# Altium schematic symbol library main.SchLib: 37 symbols (part 2 of 2)
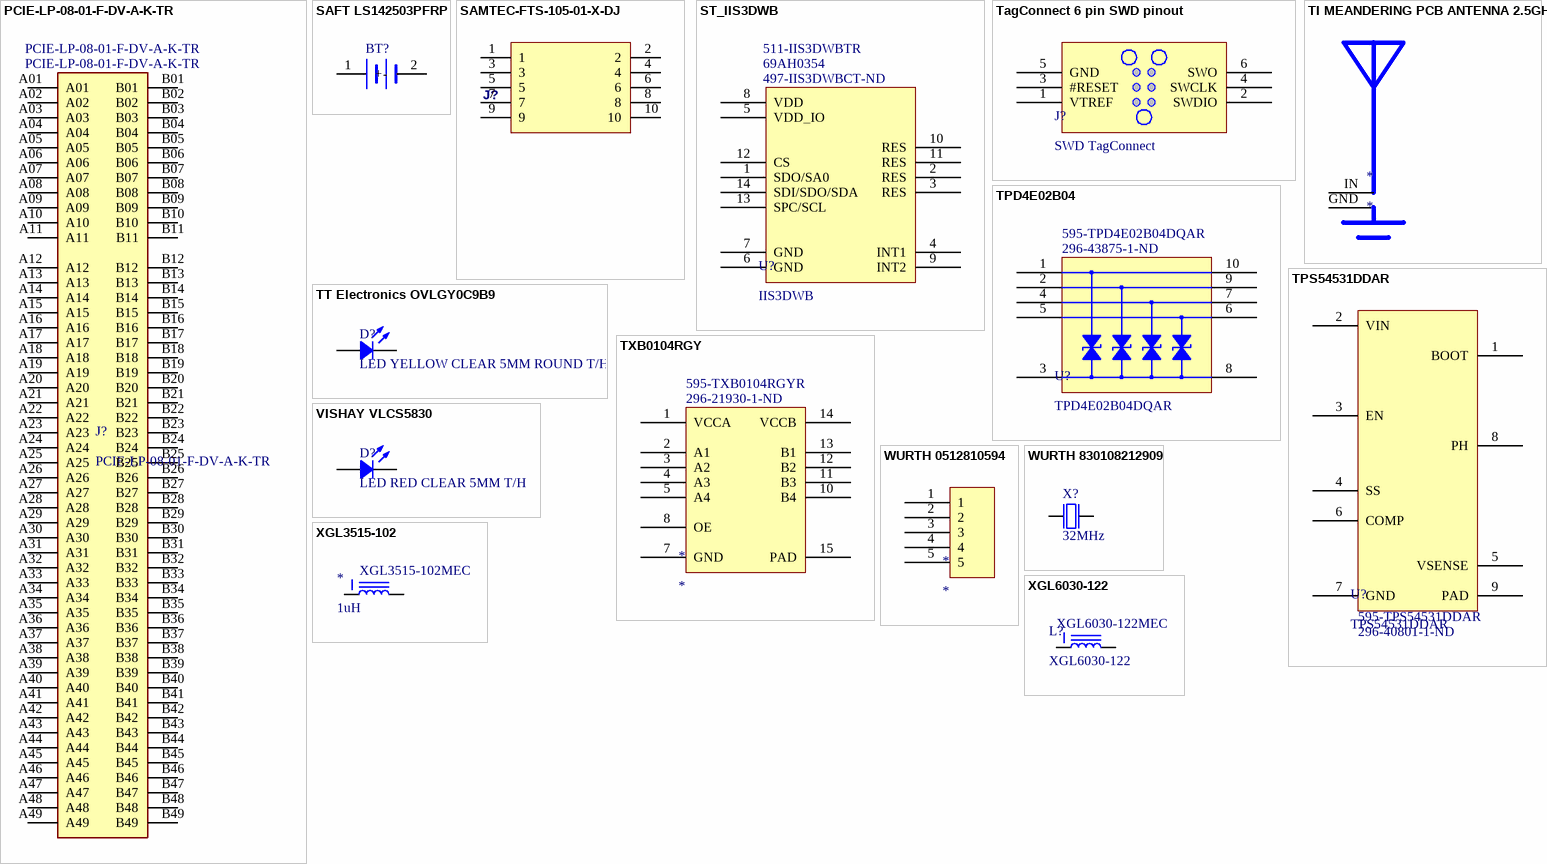
[diagram p4: symbols PCIE-LP-08-01-F-DV-A-K-TR to XGL6030-122]

## TXB0104RGY
designator *  Supplier Part Number 1: 296-21930-1-ND  Supplier Part Number 2: 595-TXB0104RGYR
TEXAS INSTRUMENTS - TXB0104RGYR - Spannungspegelumsetzer, bidirektional, 4 Eingänge, 0.02mA, 4ns, 100MB/s, 1.2V-3.6V, QFN-14; Min Supply Voltage: 1.2V; Max Supply Voltage: 5.5V; Data Rate: 100Mbps; Number of Channels: 4; Logic Function: Translator; Low Level Output Current: 20uA; High Level Output Current: -20uA; Quiescent Current: 3.5uA; Turn-On Delay Time: 31ns; Rise Time: 0.3ns; Nominal Supply Current: 10uA; Number of Circuits: 1; Supplier 1: Digi-Key; Manufacturer: Texas Instruments; Manufacturer Part Number: TXB0104RGYR; RoHS: Yes; Category: Interface ICs; Stock 1: 6181; Pricing 1: 1=1.08000, 10=0.96300, 25=0.91400, 100=0.75090, 250=0.70192, 500=0.57134, 1000=0.45054 (USD); Mount: Surface Mount; Case/Package: VQFN; Number of Pins: 14; Weight: 0.001136oz; Contact Plating: Gold; Min Operating Temperature: -40°C; Max Operating Temperature: 85°C; Propagation Delay: 4ns; Packaging: Tape and Reel; Package Quantity: 3000; Number of Bits: 4; Number of Inputs: 4; Output Current: 20uA; Termination: SMD/SMT; Length: 3.5mm; Width: 3.5mm; Height: 0.9mm; Radiation Hardening: No; REACH SVHC: No SVHC; Lead Free: Lead Free; RoHS Compliant: Yes; ComponentLink1URL: https://datasheet.ciiva.com/14287/txb0104-14287376.pdf?src-supplier=Avnet; ComponentLink1Description: https://datasheet.ciiva.com/14287/txb0104-14287376.pdf?src-supplier=Avnet; ComponentLink2URL: https://datasheet.ciiva.com/15096/getdatasheetpartid-194622-15096230.pdf?src-supplier=Verical; ComponentLink2Description: https://datasheet.ciiva.com/15096/getdatasheetpartid-194622-15096230.pdf?src-supplier=Verical; ComponentLink3URL: https://datasheet.ciiva.com/1628/1748789-1628679.pdf?src-supplier=Newark; ComponentLink3Description: https://datasheet.ciiva.com/1628/1748789-1628679.pdf?src-supplier=Newark; ComponentLink4URL: https://datasheet.ciiva.com/22653/1846917-22653357.pdf?src-supplier=Farnell; ComponentLink4Description: https://datasheet.ciiva.com/22653/1846917-22653357.pdf?src-supplier=Farnell; ComponentLink5URL: https://datasheet.ciiva.com/22696/1814911-22696845.pdf?src-supplier=Element14; ComponentLink5Description: https://datasheet.ciiva.com/22696/1814911-22696845.pdf?src-supplier=Element14; ComponentLink6URL: https://datasheet.ciiva.com/26867/txb0104rgyr-26867570.pdf?src-supplier=IIIC; ComponentLink6Description: https://datasheet.ciiva.com/26867/txb0104rgyr-26867570.pdf?src-supplier=IIIC; ComponentLink7URL: https://datasheet.ciiva.com/1508/1849862-1508725.pdf?src-supplier=Element14; ComponentLink7Description: https://datasheet.ciiva.com/1508/1849862-1508725.pdf?src-supplier=Element14; ComponentLink8URL: https://datasheet.ciiva.com/1899/txb0104-1899517.pdf?src-supplier=Digi-Key; ComponentLink8Description: https://datasheet.ciiva.com/1899/txb0104-1899517.pdf?src-supplier=Digi-Key; ComponentLink9URL: https://datasheet.ciiva.com/46384/1864432-46384589.pdf?src-supplier=Element14; ComponentLink9Description: https://datasheet.ciiva.com/46384/1864432-46384589.pdf?src-supplier=Element14; ComponentLink10URL: https://datasheet.ciiva.com/1899/txb0104-1899518.pdf?src-supplier=Digi-Key; ComponentLink10Description: https://datasheet.ciiva.com/1899/txb0104-1899518.pdf?src-supplier=Digi-Key; ComponentLink11URL: https://datasheet.ciiva.com/1899/txb0104-1899519.pdf?src-supplier=Digi-Key; ComponentLink11Description: https://datasheet.ciiva.com/1899/txb0104-1899519.pdf?src-supplier=Digi-Key; Supplier 2: Mouser; Stock 2: 14479; Pricing 2: 1=1.02000, 10=0.86300, 50=0.86300, 100=0.70900, 1000=0.43200, 10000=0.41000 (USD)
footprint PQFN50P350X350X100_HS-15L (PQFN, 14-Leads, Body 3.50x3.50mm, Pitch 0.50mm/1.50mm, Thermal Pad 2.05x2.05mm, IPC High Density)
pins: 1 VCCA, 2 A1, 3 A2, 4 A3, 5 A4, 7 GND, 8 OE, 10 B4, 11 B3, 12 B2, 13 B1, 14 VCCB, 15 PAD

## VISHAY VLCS5830
designator D?, comment LED RED CLEAR 5MM T/H
Manufacturer: Vishay Semiconductors; Manufacturer Part Number: VLCS5830; Lens Color: Colorless; Lens Style: Clear,Dome,Diffused,Circular; Viewing Angle: 8°; Number of LEDs: 1; Forward Current: 50mA; Forward Voltage: 2.2V; Luminous Intensity: 65000mcd; Dominant Wavelength: 624nm; Supplier 1: Digi-Key; Supplier Part Number 1: VLCS5830-ND; RoHS: Yes; Category: LEDs; Stock 1: 60597; Pricing 1: 1=0.63000, 10=0.53700, 100=0.40070, 500=0.31482, 1000=0.24327, 2000=0.22181, 5000=0.20750, 10000=0.20250 (USD); Mount: Through Hole; Case/Package: Radial; Number of Pins: 2; Color: Red; Min Operating Temperature: -40°C; Max Operating Temperature: 100°C; Package Quantity: 4000; Packaging: Bulk; Illumination Color: Red; Test Current: 50mA; Lens Transparency: Clear; Series: VLC.58; Height: 8.7mm; Radiation Hardening: No; RoHS Compliant: Yes; ComponentLink1URL: https://datasheet.ciiva.com/18614/vlcs5830-18614339.pdf?src-supplier=Digi-Key; ComponentLink1Description: https://datasheet.ciiva.com/18614/vlcs5830-18614339.pdf?src-supplier=Digi-Key; ComponentLink2URL: https://datasheet.ciiva.com/13498/vlcs5830-242232-13498885.pdf?src-supplier=Mouser; ComponentLink2Description: https://datasheet.ciiva.com/13498/vlcs5830-242232-13498885.pdf?src-supplier=Mouser; ComponentLink3URL: https://datasheet.ciiva.com/28432/vlcs5830-28432522.pdf?src-supplier=Avnet+Europe; ComponentLink3Description: https://datasheet.ciiva.com/28432/vlcs5830-28432522.pdf?src-supplier=Avnet+Europe; ComponentLink4URL: https://datasheet.ciiva.com/30005/vlcs5830-30005131.pdf?src-supplier=Avnet; ComponentLink4Description: https://datasheet.ciiva.com/30005/vlcs5830-30005131.pdf?src-supplier=Avnet; Supplier 2: Newark; Supplier Part Number 2: 60AC3934; Supplier 3: Mouser; Supplier Part Number 3: 78-VLCS5830; Supplier 4: Arrow Electronics; Supplier Part Number 4: VLCS5830
footprint Generic 2.54mm LED THT
pins: 1, 2

## WURTH 0512810594
designator *
In a Pack of 50, Molex 51281 Series 0.5mm Pitch 5 Way SMT Female FPC Connector, Non-ZIF; Manufacturer Part Number: 0512810594; Voltage Rating: 50V; Current Rating: 500mA; Number of Positions: 5; Contact Resistance: 20mR; Wire/Cable Type: Straight; Supplier 1: Digi-Key; Supplier Part Number 1: WM12846CT-ND; Manufacturer: Molex; RoHS: Yes; Category: FFC / FPC; Stock 1: 41273; Pricing 1: 1=0.51000, 10=0.43300, 100=0.33680, 1000=0.26466 (USD); Mount: Surface Mount; Housing Material: Polymer; Contact Material: Bronze; Contact Plating: Gold; Housing Color: Natural; Min Operating Temperature: -20°C; Max Operating Temperature: 85°C; Orientation: Right Angle; Number of Rows: 1; Packaging: Tape and Reel; Package Quantity: 1; Termination: Solder; Number of Contacts: 5; Length: 4.6mm; Pitch: 0.5mm; Depth: 3.75mm; Flammability Rating: UL94 V-0; ComponentLink1URL: https://datasheet.ciiva.com/2943/512810594-sd-2943242.pdf?src-supplier=Digi-Key; ComponentLink1Description: https://datasheet.ciiva.com/2943/512810594-sd-2943242.pdf?src-supplier=Digi-Key; ComponentLink2URL: https://datasheet.ciiva.com/15244/50650512810594-ffc-fpc-nectors-15244969.pdf?src-supplier=Arrow+Europe; ComponentLink2Description: https://datasheet.ciiva.com/15244/50650512810594-ffc-fpc-nectors-15244969.pdf?src-supplier=Arrow+Europe; ComponentLink3URL: https://datasheet.ciiva.com/18491/512810694-sd-18491898.pdf?src-supplier=Digi-Key; ComponentLink3Description: https://datasheet.ciiva.com/18491/512810694-sd-18491898.pdf?src-supplier=Digi-Key; Supplier 2: Digi-Key; Supplier Part Number 2: WM12846DKR-ND; Supplier 3: Mouser; Supplier Part Number 3: 538-51281-0594; Supplier 4: Arrow Electronics; Supplier Part Number 4: 51281-0594; Supplier 5: Farnell; Supplier Part Number 5: 1355722
footprint WURTH 0512810594
pins: 1, 2, 3, 4, 5

## WURTH 830108212909
designator X?, comment 32MHz
We-xtal Quartz Crystal 32.0 Mhz;; Manufacturer: Würth Elektronik; Manufacturer Part Number: 830108212909; Value: 32MHz; ComponentLink1URL: *; ComponentLink1Description: Datasheet; ComponentLink2URL: *; ComponentLink2Description: Supplier link; Supplier 1: Digi-Key; Supplier Part Number 1: 1923-830108212909DKR-ND; Stock 1: 2562; Pricing 1: 1=0.52000, 10=0.48300, 50=0.46200, 100=0.44100, 500=0.40950, 1000=0.37800 (USD); Supplier 2: Digi-Key; Supplier Part Number 2: 1923-830108212909CT-ND; Stock 2: 2562; Pricing 2: 1=0.52000, 10=0.48300, 50=0.46200, 100=0.44100, 500=0.40950, 1000=0.37800 (USD)
footprint Wurth 830108212909 (2016 XTAL)
pins: 1 inp, 2 GND hidden to GND, 3 out, 4 GND hidden to GND

## XGL3515-102
designator *, comment 1uH  Supplier Part Number 1: XGL3515-102MEC
1uH Ultra-Low Loss Shielded Power Inductor; Manufacturer: Coilcraft; Supplier 1: Coilcraft Direct; Manufacturer Part Number: XGL3515-102MEC; RoHS: Yes; Stock 1: 3080; Pricing 1: 1=1.86000, 100=1.52000, 250=1.14000, 500=0.68000, 1000=0.53000, 2500=0.46000 (USD); Value: 1uH
footprint INDP3235X15L (Precision Wire Wound Inductor, 2-Leads, Body 3.20x3.50mm, IPC High Density)
pins: 1, 2

## XGL6030-122
designator L?  Supplier Part Number 1: XGL6030-122MEC
1.2uH Ultra-Low Loss Shielded Power Inductors; Manufacturer: Coilcraft; Manufacturer Part Number: XGL6030-472MEC; Value: 4.7uH; DCR: 17.5 mR; RoHS: No; Supplier 1: Coilcraft Direct; Stock 1: 1168; Pricing 1: 1=2.52000, 100=2.06000, 250=1.54000, 500=0.93000, 1000=0.72000, 2500=0.62000 (USD)
footprint INDP6567X31L (Precision Wire Wound Inductor, 2-Leads, Body 6.51x6.71mm, IPC High Density)
pins: 1, 2